# EAGLE library part BLUEGIGA-WT11I (library gclue)
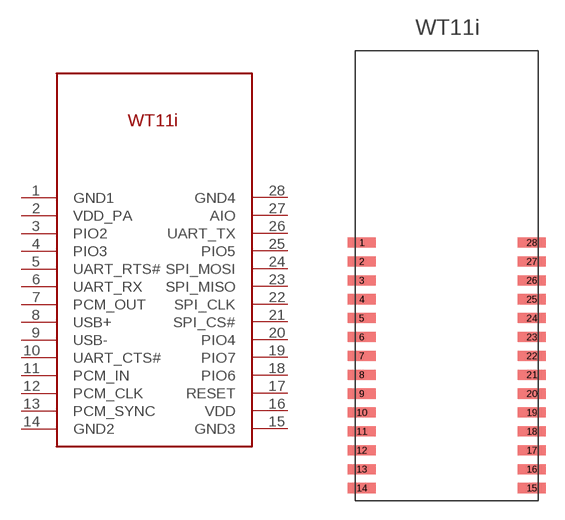
[diagram p7: symbol with the pads of BLUEGIGA-WT11I; footprint BLUEGIGA-WT11I]

Designator prefix -

## BLUEGIGA-WT11I  [BLUEGIGA-WT11I]
1  GND1
2  VDD_PA
3  PIO2
4  PIO3
5  UART_RTS#
6  UART_RX
7  PCM_OUT
8  USB+
9  USB-
10  UART_CTS#
11  PCM_IN
12  PCM_CLK
13  PCM_SYNC
14  GND2
15  GND3
16  VDD
17  RESET
18  PIO6
19  PIO7
20  PIO4
21  SPI_CS#
22  SPI_CLK
23  SPI_MISO
24  SPI_MOSI
25  PIO5
26  UART_TX
27  AIO
28  GND4

## Footprint BLUEGIGA-WT11I (pad centres in mm)
smd 2.2 x 0.8: 1 -6.75,4.5; 2 -6.75,3; 3 -6.75,1.5; 4 -6.75,0; 5 -6.75,-1.5; 6 -6.75,-3; 7 -6.75,-4.5; 8 -6.75,-6; 9 -6.75,-7.5; 10 -6.75,-9; 11 -6.75,-10.5; 12 -6.75,-12; 13 -6.75,-13.5; 14 -6.75,-15; 15 6.75,-15; 16 6.75,-13.5; 17 6.75,-12; 18 6.75,-10.5; 19 6.75,-9; 20 6.75,-7.5; 21 6.75,-6; 22 6.75,-4.5; 23 6.75,-3; 24 6.75,-1.5; 25 6.75,0; 26 6.75,1.5; 27 6.75,3; 28 6.75,4.5